# Altium footprint library MAX14921ECS.PcbLib: 2 footprints
Each footprint in its own frame and in the unit in brackets; x right, y up, seen from the top. Pads: shape width x height; smd on the part's side, far side on the other; paste and mask are expansions set on the pad; w line width, h text height; cw(c..) or ccw(c..) is an arc to the next point about the centre after c.
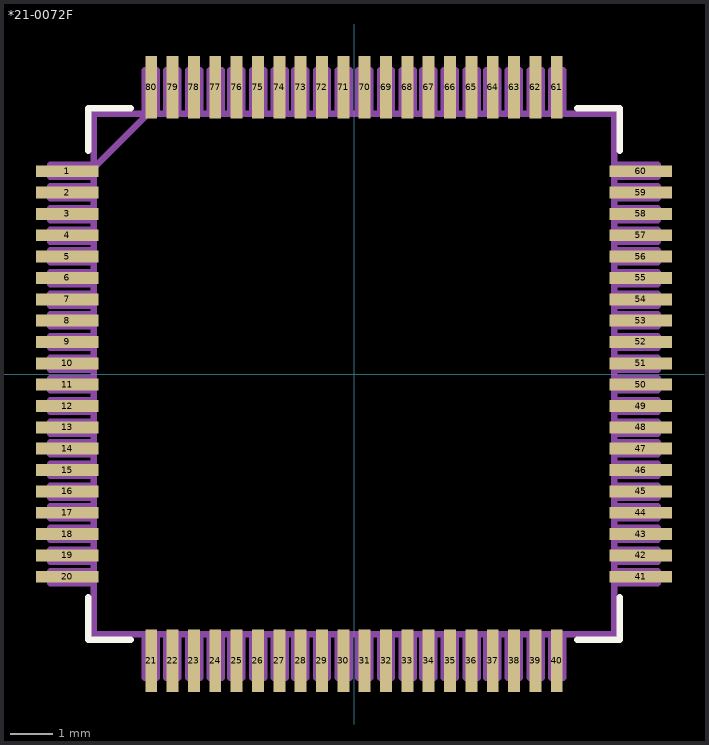
[diagram p0: the footprints below, top view; thin cyan lines are the x and y axes]

## *21-0072F [mil]
pads (80):
  rect 58x11 smd: 1(-264.5,187.01) 2(-264.5,167.32) 3(-264.5,147.64) 4(-264.5,127.95) 5(-264.5,108.27) 6(-264.5,88.58) 7(-264.5,68.9) 8(-264.5,49.21) 9(-264.5,29.53) 10(-264.5,9.84) 11(-264.5,-9.84) 12(-264.5,-29.53) 13(-264.5,-49.21) 14(-264.5,-68.9) 15(-264.5,-88.58) 16(-264.5,-108.27) 17(-264.5,-127.95) 18(-264.5,-147.64) 19(-264.5,-167.32) 20(-264.5,-187.01) 41(264.5,-187.01) 42(264.5,-167.32) 43(264.5,-147.64) 44(264.5,-127.95) 45(264.5,-108.27) 46(264.5,-88.58) 47(264.5,-68.9) 48(264.5,-49.21) 49(264.5,-29.53) 50(264.5,-9.84) 51(264.5,9.84) 52(264.5,29.53) 53(264.5,49.21) 54(264.5,68.9) 55(264.5,88.58) 56(264.5,108.27) 57(264.5,127.95) 58(264.5,147.64) 59(264.5,167.32) 60(264.5,187.01)
  rect 11x58 smd: 21(-187.01,-264.5) 22(-167.32,-264.5) 23(-147.64,-264.5) 24(-127.95,-264.5) 25(-108.27,-264.5) 26(-88.58,-264.5) 27(-68.9,-264.5) 28(-49.21,-264.5) 29(-29.53,-264.5) 30(-9.84,-264.5) 31(9.84,-264.5) 32(29.53,-264.5) 33(49.21,-264.5) 34(68.9,-264.5) 35(88.58,-264.5) 36(108.27,-264.5) 37(127.95,-264.5) 38(147.64,-264.5) 39(167.32,-264.5) 40(187.01,-264.5) 61(187.01,264.5) 62(167.32,264.5) 63(147.64,264.5) 64(127.95,264.5) 65(108.27,264.5) 66(88.58,264.5) 67(68.9,264.5) 68(49.21,264.5) 69(29.53,264.5) 70(9.84,264.5) 71(-9.84,264.5) 72(-29.53,264.5) 73(-49.21,264.5) 74(-68.9,264.5) 75(-88.58,264.5) 76(-108.27,264.5) 77(-127.95,264.5) 78(-147.64,264.5) 79(-167.32,264.5) 80(-187.01,264.5)
Top Overlay:
  lines w6: -245,-206 -245,-245 -206,-245 ; -245,206 -245,245 -206,245 ; 206,-245 245,-245 245,-206 ; 206,245 245,245 245,206
Mechanical 4:
  drawing of 654 lines, arcs and shapes, not listed

## PCBComponent_1 [mil]